# EAGLE library part MUSBV (library MUSBV)
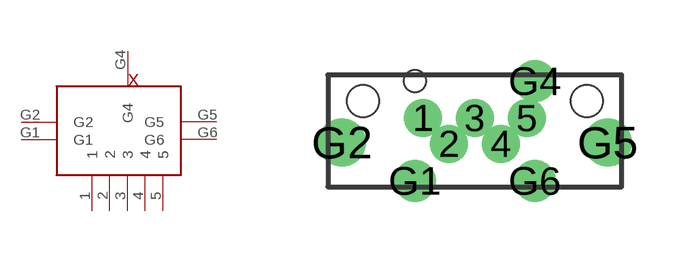
[diagram p0: symbol with the pads of MUSBV; footprint MUSBV]

Designator prefix X

## MUSBV  [MUSBV]
1  1
2  2
3  3
4  4
5  5
G1  G1
G2  G2
G4  G4
G5  G5
G6  G6

## Footprint MUSBV (pad centres in mm)
drill 0.45 pad 0.7: 1 -1.3,0.325; 2 -0.65,-0.325; 3 0,0.325; 4 0.65,-0.325; 5 1.3,0.325
drill 0.55 pad 1.016: G1 -1.5,-1.25; G4 1.5,1.25; G6 1.5,-1.25
drill 0.7 pad 1.1: G2 -3.325,-0.29; G5 3.325,-0.29
hole 0.8 at 2.8,0.75
hole 0.8 at -2.8,0.75
hole 0.55 at -1.5,1.25